# Altium footprint library XSON.PCBLIB: 1 footprints
Each footprint in its own frame and in the unit in brackets; x right, y up, seen from the top. Pads: shape width x height; smd on the part's side, far side on the other; paste and mask are expansions set on the pad; w line width, h text height; cw(c..) or ccw(c..) is an arc to the next point about the centre after c.
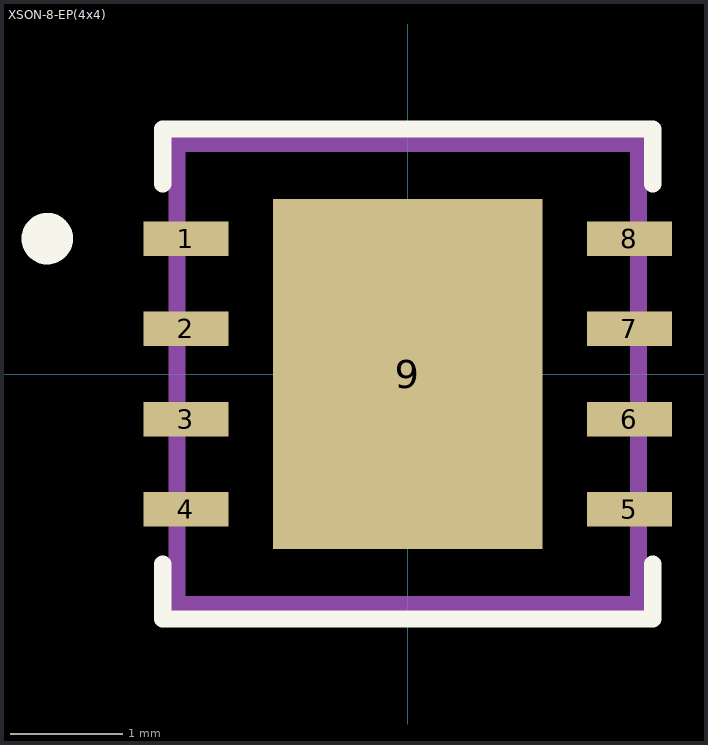
[diagram p0: the footprint, top view; thin cyan lines are the x and y axes]

## XSON-8-EP(4x4) [mil]
pads (9):
  rect 29.81x12.03 smd paste-99999: 1(-77.41,47.25) 2(-77.41,15.75) 3(-77.41,-15.75) 4(-77.41,-47.25) 5(77.41,-47.25) 6(77.41,-15.75) 7(77.41,15.75) 8(77.41,47.25)
  rect 94x122 smd paste-99999: 9(0,0)
Top Overlay:
  circle w10: c-125.81,47.25 r4
  lines w6: -85.5,-66.37 -85.5,-85.5 85.5,-85.5 85.5,-66.37 ; -85.5,66.37 -85.5,85.5 85.5,85.5 85.5,66.37
Top Paste:
  region: 43.06,57.06 -43.06,57.06 -43.06,3.94 43.06,3.94
  region: 43.06,-3.94 -43.06,-3.94 -43.06,-57.06 43.06,-57.06
Top 元件外形:
  lines w6: -80.51,-80.51 -80.51,80.51 80.51,80.51 80.51,-80.51 -80.51,-80.51
Top 中心点:
  lines w2: -19.68,0 19.68,0 ; 0,-19.68 0,19.68
3D body "DFN_XGIQTR_WIN.step": height 32.09, standoff 0, extent -80.51,-80.51 80.51,80.51